# Altium footprint library CRYSTAL-SMD_L3.2-W1.5.PcbLib: 1 footprints
Each footprint in its own frame and in the unit in brackets; x right, y up, seen from the top. Pads: shape width x height; smd on the part's side, far side on the other; paste and mask are expansions set on the pad; w line width, h text height; cw(c..) or ccw(c..) is an arc to the next point about the centre after c.
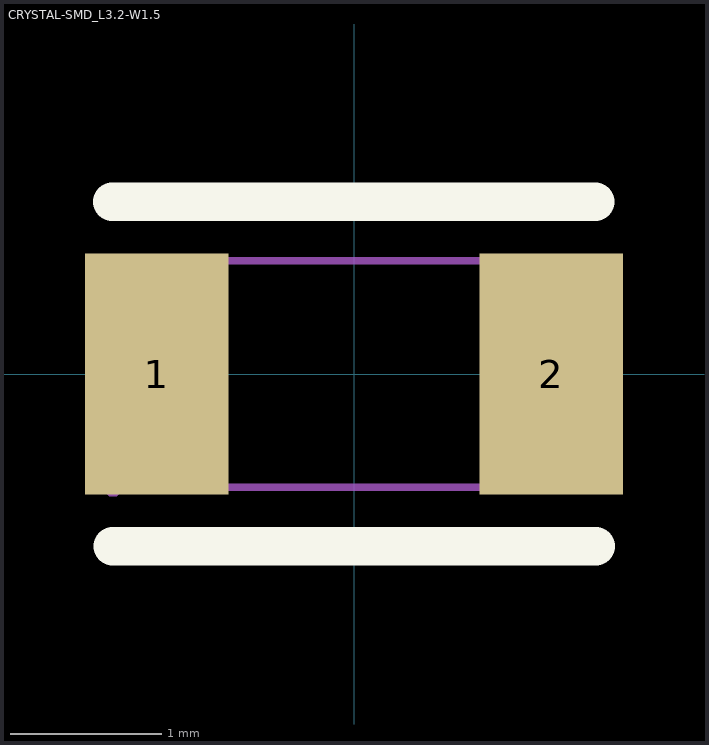
[diagram p0: the footprint, top view; thin cyan lines are the x and y axes]

## CRYSTAL-SMD_L3.2-W1.5 [mm]
pads (2):
  rect 0.95x1.6 smd: 1(-1.308,0) 2(1.308,0)
Top Overlay:
  lines w0.254: -1.603,1.14 1.597,1.14 ; -1.597,-1.14 1.603,-1.14
Mechanical 6:
  lines w0.051: -1.597,-0.75 1.603,-0.75 1.603,0.75 -1.597,0.75 -1.597,-0.75
Mechanical 8:
  region: -1.537,-0.75 -1.537,-0.775 -1.573,-0.81 -1.622,-0.81 -1.657,-0.775 -1.657,-0.75 -1.657,-0.725 -1.622,-0.69 -1.573,-0.69 -1.537,-0.725 -1.537,-0.75
Mechanical 9:
  region: -1.598,-0.65 -1.598,0.65 -0.847,0.65 -0.847,-0.65
  region: 0.853,-0.65 0.853,0.65 1.603,0.65 1.603,-0.65